# EAGLE library part PIN_HEADER_3*2 (library 08_CONECTOR)
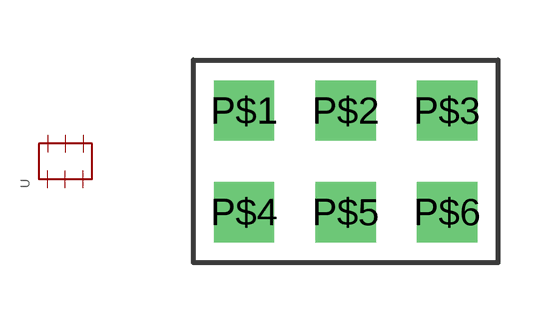
[diagram p1: symbol with the pads of PIN_HEADER_3*2; footprint PIN_HEADER_3*2]

Designator prefix -

## PIN_HEADER_32  [PIN_HEADER_3*2]
P$1  1
P$2  2
P$3  3
P$4  4
P$5  5
P$6  6

## Footprint PIN_HEADER_3*2 (pad centres in mm)
drill 1 pad 1.5 square: P$1 -2.54,1.27; P$2 0,1.27; P$3 2.54,1.27; P$4 -2.54,-1.27; P$5 0,-1.27; P$6 2.54,-1.27